# EAGLE library part CONN_3X2 (library bschulz)
Genaric 6 terminal (3x2) header Digikey 1.27MM <https://www.digikey.com/product-detail/en/sullins-connector-solutions/GRPB032VWVN-RC/S9015E-03-ND/1786453>
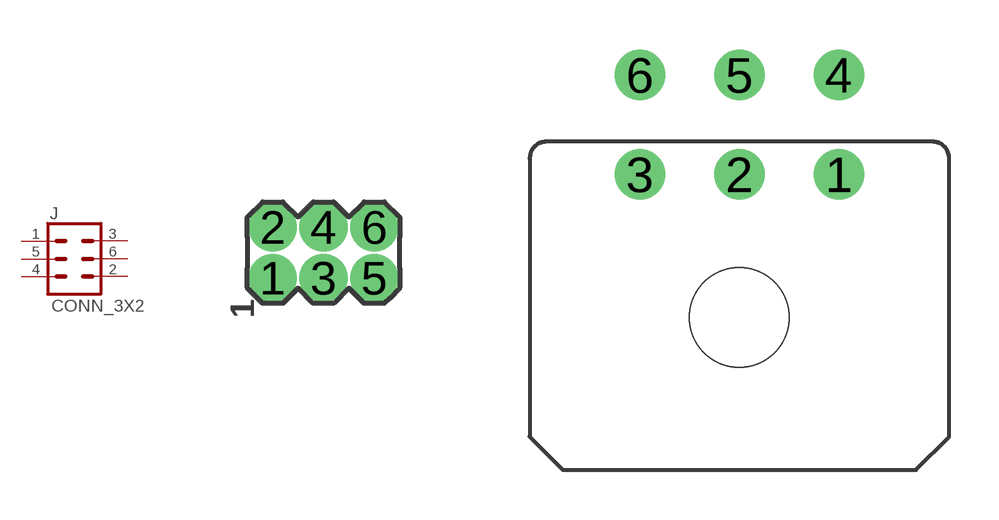
[diagram p61: symbol with the pads of 2X3_1.27; footprints 2X3_1.27, 2X3_MICROFIT_RT]

Designator prefix J

## CONN_3X21.27MM  [2X3_1.27]
1  1
2  6
3  2
4  5
5  3
6  4

## CONN_3X2MICROFIT_RT (DIGIKEY: WM1815-ND; MF: Molex; MPN: 0430450600)  [2X3_MICROFIT_RT]
1  1
2  2
3  3
4  4
5  5
6  6

## CONN_3X2MICROFIT (DIGIKEY: WM4039-ND; MF: Molex; MPN: 0430450624)  [2X3_MICROFIT]
Pads as for 2X3_MICROFIT_RT

## CONN_3X22.54MM  [2X3]
Pads as for 2X3_MICROFIT_RT

## Footprint 2X3_1.27 (pad centres in mm)
drill 0.7 pad 1.05: 1 -1.27,-0.635; 2 -1.27,0.635; 3 0,-0.635; 4 0,0.635; 5 1.27,-0.635; 6 1.27,0.635

## Footprint 2X3_MICROFIT_RT (pad centres in mm)
Molex Micro-Fit, 6 pos, Right Angle Datasheet <https://www.molex.com/pdm_docs/sd/430450600_sd.pdf>
drill 1.02: 1 3,4.32; 2 0,4.32; 3 -3,4.32; 4 3,7.32; 5 0,7.32; 6 -3,7.32
hole 3 at 0,0

## Footprint 2X3_MICROFIT (pad centres in mm)
Molex Micro-Fit, 6 pos Datasheet <https://www.molex.com/pdm_docs/sd/430450624_sd.pdf>
drill 1.02: 1 3,-1.5; 2 0,-1.5; 3 -3,-1.5; 4 3,1.5; 5 0,1.5; 6 -3,1.5
hole 2.41 at 5.15,0
hole 2.41 at -5.15,0
hole 1.02 at 6,2.44
hole 1.02 at -6,2.44

## Footprint 2X3 (pad centres in mm)
Plated Through Hole - 2x3 Specifications: Pin count:6 Pin pitch:0.1" Example device(s): CONN_03x2
drill 1.016 pad 1.88: 1 0,0; 2 0,2.54; 3 2.54,0; 4 2.54,2.54; 5 5.08,0; 6 5.08,2.54